# EAGLE library part PMOD (library PMOD)
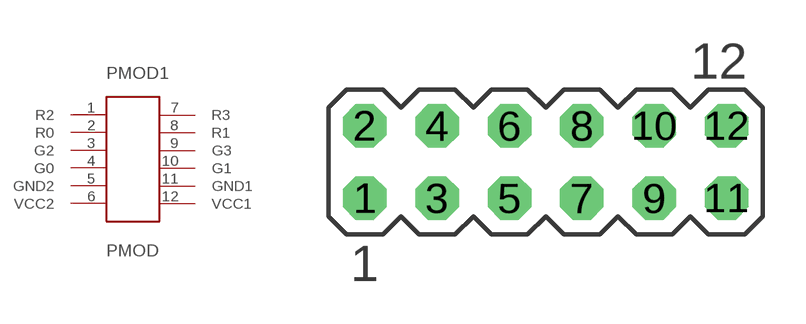
[diagram p0: symbol with the pads of MA06-2; footprint MA06-2]

Designator prefix PMOD1

## PMOD  [MA06-2]
1  R2
2  R0
3  G2
4  G0
5  GND2
6  VCC2
7  R3
8  R1
9  G3
10  G1
11  GND1
12  VCC1

## Footprint MA06-2 (pad centres in mm)
PIN HEADER
drill 1.016 octagon: 1 -6.35,-1.27; 2 -6.35,1.27; 3 -3.81,-1.27; 4 -3.81,1.27; 5 -1.27,-1.27; 6 -1.27,1.27; 7 1.27,-1.27; 8 1.27,1.27; 9 3.81,-1.27; 10 3.81,1.27; 11 6.35,-1.27; 12 6.35,1.27